# Altium schematic symbol library SCH - RF - CONNECTOR - COAXIAL JACK DUAL.SCHLIB: 1 symbol
Pins are listed as number, name and electrical type; pins without a type are passive.

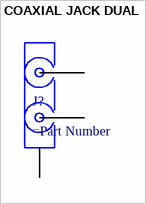
[diagram p0: symbol COAXIAL JACK DUAL]

## COAXIAL JACK DUAL
designator J?
pins: G GND, S1 SIGNAL BOT, S2 SIGNAL TOP